# Altium footprint library XTAL-SPE-HC49_SMD.PcbLib: 1 footprints
Each footprint in its own frame and in the unit in brackets; x right, y up, seen from the top. Pads: shape width x height; smd on the part's side, far side on the other; paste and mask are expansions set on the pad; w line width, h text height; cw(c..) or ccw(c..) is an arc to the next point about the centre after c.
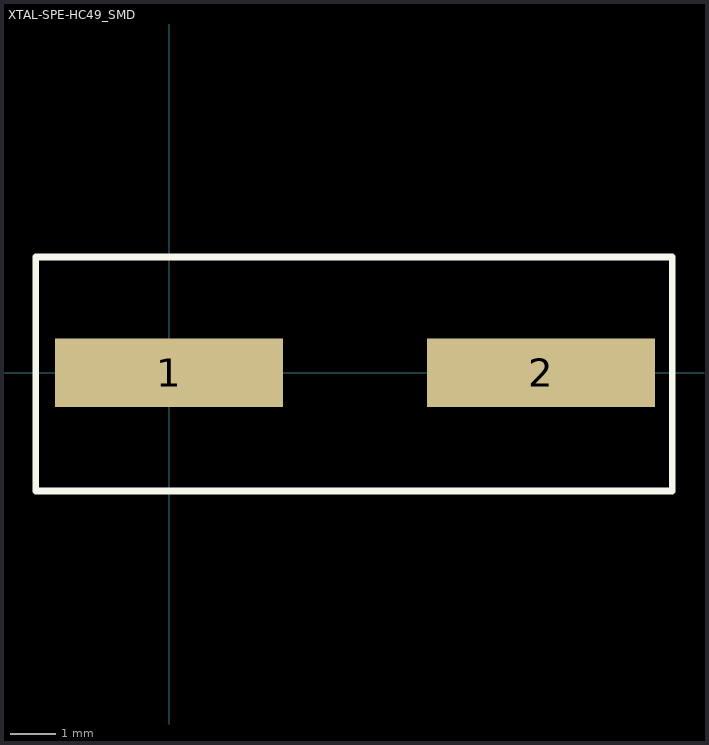
[diagram p0: the footprint, top view; thin cyan lines are the x and y axes]

## XTAL-SPE-HC49_SMD [mm]
pads (2):
  rect 5x1.5 smd: 1(0,0) 2(8.15,0)
Top Overlay:
  lines w0.15: -2.921,-2.591 11.024,-2.591 11.024,2.54 -2.921,2.54 -2.921,-2.591
3D body: height 4.3, standoff 0, extent -2.21,-2.44 10.59,2.39